# Altium integrated library Linear Technology Comparators.IntLib: 630 symbols (part 5 of 24)
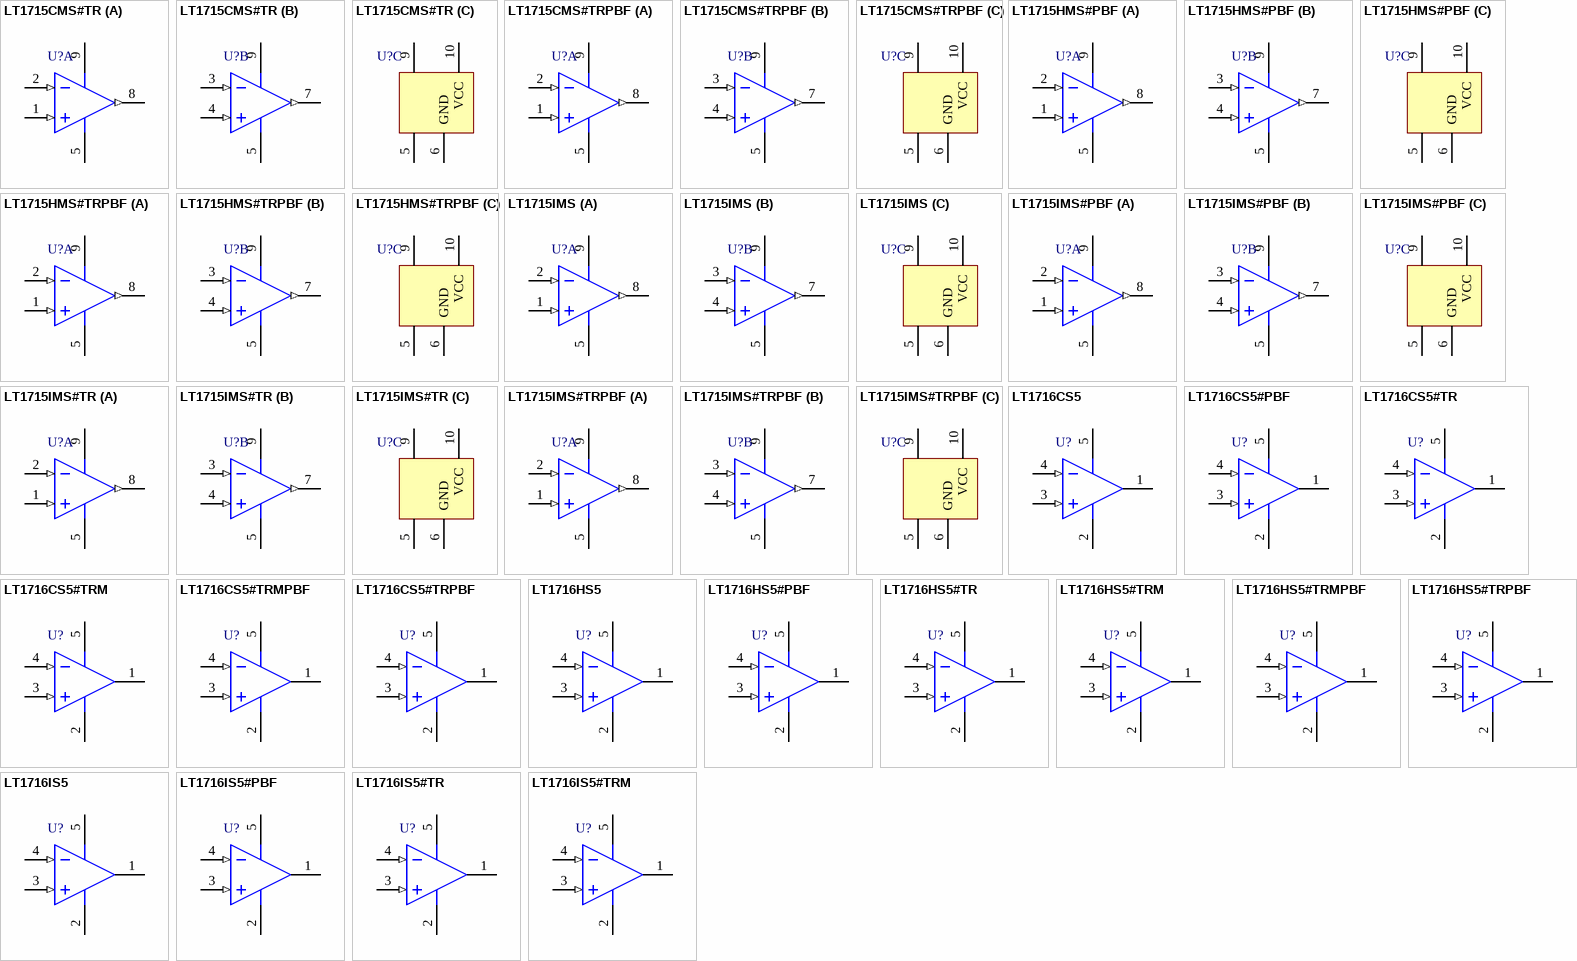
[diagram p28: symbols LT1715CMS#TR to LT1716IS5#TRM]

## LT1715IMS#TRPBF
designator U?
4 ns, 150 MHz Comparator with Independent Input / Output Supplies, 2 Channels, 2.7 to 12 V, -40 to +85 degC, 10-pin MSOP (MS10), Tape and Reel; Generic Part Number: LT1715; Manufacturer: Linear Technology; PartNumber: LT1715IMS#TRPBF; Channels (#): 2; Prop Delay (us): 0.004; Supply Current (uA) Typical: 7500; Vos (mV) Guaranteed: 2.5; Vos (mV) Typical: 0.4; Vs Max (V): 12; Vs Min (V): 2.7; DatasheetVersion: Rev A; PackageReference: MS10; PackageDescription: 10-Pin MSOP, Body 3 x 3 mm, Pitch 0.5 mm; Supplier 1: Digi-Key; Supplier Part Number 1: LT1715IMS#TRPBF-ND; Supplier 2: Newark; Supplier Part Number 2: 57M5789; Features: Comparator, Separate In/Out Power Supply; RoHS: Y; Supply Voltage Range: 2.7 to 12 V; Mounting Technology: Surface Mount; ComponentLink1Description: Manufacturer URL; ComponentLink1URL: http://www.linear.com/; ComponentLink2Description: Datasheet; ComponentLink2URL: http://cds.linear.com/docs/en/datasheet/1715fa.pdf; ComponentLink3Description: Package Specification; ComponentLink3URL: http://cds.linear.com/docs/en/packaging/MSOP_10_05-08-1661.pdf
footprint LT-MS10_N (SOP, 10-Leads, Body 3x3mm, Pitch 0.5mm, IPC Medium Density)
footprint LT-MS10_L (SOP, 10-Leads, Body 3x3mm, Pitch 0.5mm, IPC High Density)
footprint LT-MS10_M (SOP, 10-Leads, Body 3x3mm, Pitch 0.5mm, IPC Low Density)
pins on every part: 5 VEE (power) "Negative Supply Voltage for Input Stage and Substrate.", 9 +VS (power) "Positive Supply Voltage for Output Stage."
part A pins: 1 +IN A (in) "Noninverting Input of Comparator A.", 2 -IN A (in) "Inverting Input of Comparator A.", 8 OUT A (out) "Output of Comparator A."
part B pins: 3 -IN B (in) "Inverting Input of Comparator B.", 4 +IN B (in) "Noninverting Input of Comparator B.", 7 OUT B (out) "Output of Comparator B."
part C pins: 6 GND (power) "Ground for Output Stage.", 10 VCC (power) "Positive Supply Voltage for Input Stage."

## LT1716CS5
designator U?
44 V, Over-the-Top, Micropower, Precision Rail-to-Rail Comparator, 1 Channel, 2.7 to 44 V, 0 to +70 degC, 5-pin Plastic TSOT-23 (S5); Generic Part Number: LT1716; Manufacturer: Linear Technology; PartNumber: LT1716CS5; Channels (#): 1; Prop Delay (us): 3; Supply Current (uA) Typical: 50; Vos (mV) Guaranteed: 1.6; Vos (mV) Typical: 0.3; Vs Max (V): 44; Vs Min (V): 2.7; DatasheetVersion: Rev A; PackageReference: S5; PackageDescription: 5-Pin Plastic TSOT-23, Body 2.9 x 1.63 mm, Pitch 0.95 mm; Features: Comparator, Over-the-Top Inputs, Rail-to-Rail Out; RoHS: N; Supply Voltage Range: 2.7 to 44 V; Mounting Technology: Surface Mount; Code_JEDEC: MO-193; ComponentLink1Description: Manufacturer URL; ComponentLink1URL: http://www.linear.com/; ComponentLink2Description: Datasheet; ComponentLink2URL: http://cds.linear.com/docs/en/datasheet/1716fa.pdf; ComponentLink3Description: Package Specification; ComponentLink3URL: http://cds.linear.com/docs/en/packaging/SOT_5_05-08-1635.pdf
footprint LT-S5_N (SOT-23, 5-Leads, Body 2.9x1.63mm, Pitch 0.95mm, IPC Medium Density)
footprint LT-S5_L (SOT-23, 5-Leads, Body 2.9x1.63mm, Pitch 0.95mm, IPC High Density)
footprint LT-S5_M (SOT-23, 5-Leads, Body 2.9x1.63mm, Pitch 0.95mm, IPC Low Density)
pins: 1 OUT (oc), 2 V- (power), 3 +IN (in), 4 -IN (in), 5 V+ (power)

## LT1716CS5#PBF
designator U?
44 V, Over-the-Top, Micropower, Precision Rail-to-Rail Comparator, 1 Channel, 2.7 to 44 V, 0 to +70 degC, 5-pin Plastic TSOT-23 (S5); Generic Part Number: LT1716; Manufacturer: Linear Technology; PartNumber: LT1716CS5#PBF; Channels (#): 1; Prop Delay (us): 3; Supply Current (uA) Typical: 50; Vos (mV) Guaranteed: 1.6; Vos (mV) Typical: 0.3; Vs Max (V): 44; Vs Min (V): 2.7; DatasheetVersion: Rev A; PackageReference: S5; PackageDescription: 5-Pin Plastic TSOT-23, Body 2.9 x 1.63 mm, Pitch 0.95 mm; Supplier 1: Farnell; Supplier Part Number 1: 1417738; Supplier 2: Farnell; Supplier Part Number 2: 1417738RL; Supplier 3: Newark; Supplier Part Number 3: 78T3704; Features: Comparator, Over-the-Top Inputs, Rail-to-Rail Out; RoHS: Y; Supply Voltage Range: 2.7 to 44 V; Mounting Technology: Surface Mount; Code_JEDEC: MO-193; ComponentLink1Description: Manufacturer URL; ComponentLink1URL: http://www.linear.com/; ComponentLink2Description: Datasheet; ComponentLink2URL: http://cds.linear.com/docs/en/datasheet/1716fa.pdf; ComponentLink3Description: Package Specification; ComponentLink3URL: http://cds.linear.com/docs/en/packaging/SOT_5_05-08-1635.pdf
footprint LT-S5_N (SOT-23, 5-Leads, Body 2.9x1.63mm, Pitch 0.95mm, IPC Medium Density)
footprint LT-S5_L (SOT-23, 5-Leads, Body 2.9x1.63mm, Pitch 0.95mm, IPC High Density)
footprint LT-S5_M (SOT-23, 5-Leads, Body 2.9x1.63mm, Pitch 0.95mm, IPC Low Density)
pins: 1 OUT (oc), 2 V- (power), 3 +IN (in), 4 -IN (in), 5 V+ (power)

## LT1716CS5#TR
designator U?
44 V, Over-the-Top, Micropower, Precision Rail-to-Rail Comparator, 1 Channel, 2.7 to 44 V, 0 to +70 degC, 5-pin Plastic TSOT-23 (S5), Tape and Reel; Generic Part Number: LT1716; Manufacturer: Linear Technology; PartNumber: LT1716CS5#TR; Channels (#): 1; Prop Delay (us): 3; Supply Current (uA) Typical: 50; Vos (mV) Guaranteed: 1.6; Vos (mV) Typical: 0.3; Vs Max (V): 44; Vs Min (V): 2.7; DatasheetVersion: Rev A; PackageReference: S5; PackageDescription: 5-Pin Plastic TSOT-23, Body 2.9 x 1.63 mm, Pitch 0.95 mm; Supplier 1: Digi-Key; Supplier Part Number 1: LT1716CS5#TR-ND; Supplier 2: Newark; Supplier Part Number 2: 57M5790; Features: Comparator, Over-the-Top Inputs, Rail-to-Rail Out; RoHS: N; Supply Voltage Range: 2.7 to 44 V; Mounting Technology: Surface Mount; Code_JEDEC: MO-193; ComponentLink1Description: Manufacturer URL; ComponentLink1URL: http://www.linear.com/; ComponentLink2Description: Datasheet; ComponentLink2URL: http://cds.linear.com/docs/en/datasheet/1716fa.pdf; ComponentLink3Description: Package Specification; ComponentLink3URL: http://cds.linear.com/docs/en/packaging/SOT_5_05-08-1635.pdf
footprint LT-S5_N (SOT-23, 5-Leads, Body 2.9x1.63mm, Pitch 0.95mm, IPC Medium Density)
footprint LT-S5_L (SOT-23, 5-Leads, Body 2.9x1.63mm, Pitch 0.95mm, IPC High Density)
footprint LT-S5_M (SOT-23, 5-Leads, Body 2.9x1.63mm, Pitch 0.95mm, IPC Low Density)
pins: 1 OUT (oc), 2 V- (power), 3 +IN (in), 4 -IN (in), 5 V+ (power)

## LT1716CS5#TRM
designator U?
44 V, Over-the-Top, Micropower, Precision Rail-to-Rail Comparator, 1 Channel, 2.7 to 44 V, 0 to +70 degC, 5-pin Plastic TSOT-23 (S5), Mini Tape and Reel; Generic Part Number: LT1716; Manufacturer: Linear Technology; PartNumber: LT1716CS5#TRM; Channels (#): 1; Prop Delay (us): 3; Supply Current (uA) Typical: 50; Vos (mV) Guaranteed: 1.6; Vos (mV) Typical: 0.3; Vs Max (V): 44; Vs Min (V): 2.7; DatasheetVersion: Rev A; PackageReference: S5; PackageDescription: 5-Pin Plastic TSOT-23, Body 2.9 x 1.63 mm, Pitch 0.95 mm; Supplier 1: Digi-Key; Supplier Part Number 1: LT1716CS5#TRMTR-ND; Supplier 2: Digi-Key; Supplier Part Number 2: LT1716CS5#TRMCT-ND; Supplier 3: Digi-Key; Supplier Part Number 3: LT1716CS5#TRMDKR-ND; Features: Comparator, Over-the-Top Inputs, Rail-to-Rail Out; RoHS: N; Supply Voltage Range: 2.7 to 44 V; Mounting Technology: Surface Mount; Code_JEDEC: MO-193; ComponentLink1Description: Manufacturer URL; ComponentLink1URL: http://www.linear.com/; ComponentLink2Description: Datasheet; ComponentLink2URL: http://cds.linear.com/docs/en/datasheet/1716fa.pdf; ComponentLink3Description: Package Specification; ComponentLink3URL: http://cds.linear.com/docs/en/packaging/SOT_5_05-08-1635.pdf
footprint LT-S5_N (SOT-23, 5-Leads, Body 2.9x1.63mm, Pitch 0.95mm, IPC Medium Density)
footprint LT-S5_L (SOT-23, 5-Leads, Body 2.9x1.63mm, Pitch 0.95mm, IPC High Density)
footprint LT-S5_M (SOT-23, 5-Leads, Body 2.9x1.63mm, Pitch 0.95mm, IPC Low Density)
pins: 1 OUT (oc), 2 V- (power), 3 +IN (in), 4 -IN (in), 5 V+ (power)

## LT1716CS5#TRMPBF
designator U?
SOT-23, 44 V, Over-the-Top, Micropower, Precision Rail-to-Rail Comparator, 1 Channel, 2.7 to 44 V, 0 to +70 degC, 5-pin Plastic TSOT-23 (S5), Mini Tape and Reel; Generic Part Number: LT1716; Manufacturer: Linear Technology; PartNumber: LT1716CS5#TRMPBF; Channels (#): 1; Prop Delay (us): 3; Supply Current (uA) Typical: 50; Vos (mV) Guaranteed: 1.6; Vos (mV) Typical: 0.3; Vs Max (V): 44; Vs Min (V): 2.7; DatasheetVersion: Rev A; PackageReference: S5; PackageDescription: 5-Pin Plastic TSOT-23, Body 2.9 x 1.63 mm, Pitch 0.95 mm; Supplier 1: Digi-Key; Supplier Part Number 1: LT1716CS5#TRMPBFTR-ND; Supplier 2: Digi-Key; Supplier Part Number 2: LT1716CS5#TRMPBFCT-ND; Supplier 3: Digi-Key; Supplier Part Number 3: LT1716CS5#TRMPBFDKR-ND; Supplier 4: Farnell; Supplier Part Number 4: 1663767; Supplier 5: Newark; Supplier Part Number 5: 57M5792; Features: Comparator, Over-the-Top Inputs, Rail-to-Rail Out; RoHS: Y; Supply Voltage Range: 2.7 to 44 V; Mounting Technology: Surface Mount; Code_JEDEC: MO-193; ComponentLink1Description: Manufacturer URL; ComponentLink1URL: http://www.linear.com/; ComponentLink2Description: Datasheet; ComponentLink2URL: http://cds.linear.com/docs/en/datasheet/1716fa.pdf; ComponentLink3Description: Package Specification; ComponentLink3URL: http://cds.linear.com/docs/en/packaging/SOT_5_05-08-1635.pdf
footprint LT-S5_N (SOT-23, 5-Leads, Body 2.9x1.63mm, Pitch 0.95mm, IPC Medium Density)
footprint LT-S5_L (SOT-23, 5-Leads, Body 2.9x1.63mm, Pitch 0.95mm, IPC High Density)
footprint LT-S5_M (SOT-23, 5-Leads, Body 2.9x1.63mm, Pitch 0.95mm, IPC Low Density)
pins: 1 OUT (oc), 2 V- (power), 3 +IN (in), 4 -IN (in), 5 V+ (power)

## LT1716CS5#TRPBF
designator U?
SOT-23, 44 V, Over-the-Top, Micropower, Precision Rail-to-Rail Comparator, 1 Channel, 2.7 to 44 V, 0 to +70 degC, 5-pin Plastic TSOT-23 (S5), Tape and Reel; Generic Part Number: LT1716; Manufacturer: Linear Technology; PartNumber: LT1716CS5#TRPBF; Channels (#): 1; Prop Delay (us): 3; Supply Current (uA) Typical: 50; Vos (mV) Guaranteed: 1.6; Vos (mV) Typical: 0.3; Vs Max (V): 44; Vs Min (V): 2.7; DatasheetVersion: Rev A; PackageReference: S5; PackageDescription: 5-Pin Plastic TSOT-23, Body 2.9 x 1.63 mm, Pitch 0.95 mm; Supplier 1: Digi-Key; Supplier Part Number 1: LT1716CS5#TRPBF-ND; Supplier 2: Newark; Supplier Part Number 2: 57M5793; Features: Comparator, Over-the-Top Inputs, Rail-to-Rail Out; RoHS: Y; Supply Voltage Range: 2.7 to 44 V; Mounting Technology: Surface Mount; Code_JEDEC: MO-193; ComponentLink1Description: Manufacturer URL; ComponentLink1URL: http://www.linear.com/; ComponentLink2Description: Datasheet; ComponentLink2URL: http://cds.linear.com/docs/en/datasheet/1716fa.pdf; ComponentLink3Description: Package Specification; ComponentLink3URL: http://cds.linear.com/docs/en/packaging/SOT_5_05-08-1635.pdf
footprint LT-S5_N (SOT-23, 5-Leads, Body 2.9x1.63mm, Pitch 0.95mm, IPC Medium Density)
footprint LT-S5_L (SOT-23, 5-Leads, Body 2.9x1.63mm, Pitch 0.95mm, IPC High Density)
footprint LT-S5_M (SOT-23, 5-Leads, Body 2.9x1.63mm, Pitch 0.95mm, IPC Low Density)
pins: 1 OUT (oc), 2 V- (power), 3 +IN (in), 4 -IN (in), 5 V+ (power)

## LT1716HS5
designator U?
44 V, Over-the-Top, Micropower, Precision Rail-to-Rail Comparator, 1 Channel, 2.7 to 44 V, -40 to +125 degC, 5-pin Plastic TSOT-23 (S5); Generic Part Number: LT1716; Manufacturer: Linear Technology; PartNumber: LT1716HS5; Channels (#): 1; Prop Delay (us): 3; Supply Current (uA) Typical: 50; Vos (mV) Guaranteed: 1.6; Vos (mV) Typical: 0.3; Vs Max (V): 44; Vs Min (V): 2.7; DatasheetVersion: Rev A; PackageReference: S5; PackageDescription: 5-Pin Plastic TSOT-23, Body 2.9 x 1.63 mm, Pitch 0.95 mm; Features: Comparator, Over-the-Top Inputs, Rail-to-Rail Out; RoHS: N; Supply Voltage Range: 2.7 to 44 V; Mounting Technology: Surface Mount; Code_JEDEC: MO-193; ComponentLink1Description: Manufacturer URL; ComponentLink1URL: http://www.linear.com/; ComponentLink2Description: Datasheet; ComponentLink2URL: http://cds.linear.com/docs/en/datasheet/1716fa.pdf; ComponentLink3Description: Package Specification; ComponentLink3URL: http://cds.linear.com/docs/en/packaging/SOT_5_05-08-1635.pdf
footprint LT-S5_N (SOT-23, 5-Leads, Body 2.9x1.63mm, Pitch 0.95mm, IPC Medium Density)
footprint LT-S5_L (SOT-23, 5-Leads, Body 2.9x1.63mm, Pitch 0.95mm, IPC High Density)
footprint LT-S5_M (SOT-23, 5-Leads, Body 2.9x1.63mm, Pitch 0.95mm, IPC Low Density)
pins: 1 OUT (oc), 2 V- (power), 3 +IN (in), 4 -IN (in), 5 V+ (power)

## LT1716HS5#PBF
designator U?
44 V, Over-the-Top, Micropower, Precision Rail-to-Rail Comparator, 1 Channel, 2.7 to 44 V, -40 to +125 degC, 5-pin Plastic TSOT-23 (S5); Generic Part Number: LT1716; Manufacturer: Linear Technology; PartNumber: LT1716HS5#PBF; Channels (#): 1; Prop Delay (us): 3; Supply Current (uA) Typical: 50; Vos (mV) Guaranteed: 1.6; Vos (mV) Typical: 0.3; Vs Max (V): 44; Vs Min (V): 2.7; DatasheetVersion: Rev A; PackageReference: S5; PackageDescription: 5-Pin Plastic TSOT-23, Body 2.9 x 1.63 mm, Pitch 0.95 mm; Supplier 1: Newark; Supplier Part Number 1: 65T5908; Features: Comparator, Over-the-Top Inputs, Rail-to-Rail Out; RoHS: Y; Supply Voltage Range: 2.7 to 44 V; Mounting Technology: Surface Mount; Code_JEDEC: MO-193; ComponentLink1Description: Manufacturer URL; ComponentLink1URL: http://www.linear.com/; ComponentLink2Description: Datasheet; ComponentLink2URL: http://cds.linear.com/docs/en/datasheet/1716fa.pdf; ComponentLink3Description: Package Specification; ComponentLink3URL: http://cds.linear.com/docs/en/packaging/SOT_5_05-08-1635.pdf
footprint LT-S5_N (SOT-23, 5-Leads, Body 2.9x1.63mm, Pitch 0.95mm, IPC Medium Density)
footprint LT-S5_L (SOT-23, 5-Leads, Body 2.9x1.63mm, Pitch 0.95mm, IPC High Density)
footprint LT-S5_M (SOT-23, 5-Leads, Body 2.9x1.63mm, Pitch 0.95mm, IPC Low Density)
pins: 1 OUT (oc), 2 V- (power), 3 +IN (in), 4 -IN (in), 5 V+ (power)

## LT1716HS5#TR
designator U?
44 V, Over-the-Top, Micropower, Precision Rail-to-Rail Comparator, 1 Channel, 2.7 to 44 V, -40 to +125 degC, 5-pin Plastic TSOT-23 (S5), Tape and Reel; Generic Part Number: LT1716; Manufacturer: Linear Technology; PartNumber: LT1716HS5#TR; Channels (#): 1; Prop Delay (us): 3; Supply Current (uA) Typical: 50; Vos (mV) Guaranteed: 1.6; Vos (mV) Typical: 0.3; Vs Max (V): 44; Vs Min (V): 2.7; DatasheetVersion: Rev A; PackageReference: S5; PackageDescription: 5-Pin Plastic TSOT-23, Body 2.9 x 1.63 mm, Pitch 0.95 mm; Supplier 1: Digi-Key; Supplier Part Number 1: LT1716HS5#TR-ND; Supplier 2: Newark; Supplier Part Number 2: 57M5794; Features: Comparator, Over-the-Top Inputs, Rail-to-Rail Out; RoHS: N; Supply Voltage Range: 2.7 to 44 V; Mounting Technology: Surface Mount; Code_JEDEC: MO-193; ComponentLink1Description: Manufacturer URL; ComponentLink1URL: http://www.linear.com/; ComponentLink2Description: Datasheet; ComponentLink2URL: http://cds.linear.com/docs/en/datasheet/1716fa.pdf; ComponentLink3Description: Package Specification; ComponentLink3URL: http://cds.linear.com/docs/en/packaging/SOT_5_05-08-1635.pdf
footprint LT-S5_N (SOT-23, 5-Leads, Body 2.9x1.63mm, Pitch 0.95mm, IPC Medium Density)
footprint LT-S5_L (SOT-23, 5-Leads, Body 2.9x1.63mm, Pitch 0.95mm, IPC High Density)
footprint LT-S5_M (SOT-23, 5-Leads, Body 2.9x1.63mm, Pitch 0.95mm, IPC Low Density)
pins: 1 OUT (oc), 2 V- (power), 3 +IN (in), 4 -IN (in), 5 V+ (power)

## LT1716HS5#TRM
designator U?
44 V, Over-the-Top, Micropower, Precision Rail-to-Rail Comparator, 1 Channel, 2.7 to 44 V, -40 to +125 degC, 5-pin Plastic TSOT-23 (S5), Mini Tape and Reel; Generic Part Number: LT1716; Manufacturer: Linear Technology; PartNumber: LT1716HS5#TRM; Channels (#): 1; Prop Delay (us): 3; Supply Current (uA) Typical: 50; Vos (mV) Guaranteed: 1.6; Vos (mV) Typical: 0.3; Vs Max (V): 44; Vs Min (V): 2.7; DatasheetVersion: Rev A; PackageReference: S5; PackageDescription: 5-Pin Plastic TSOT-23, Body 2.9 x 1.63 mm, Pitch 0.95 mm; Supplier 1: Digi-Key; Supplier Part Number 1: LT1716HS5#TRMTR-ND; Supplier 2: Digi-Key; Supplier Part Number 2: LT1716HS5#TRMCT-ND; Supplier 3: Digi-Key; Supplier Part Number 3: LT1716HS5#TRMDKR-ND; Supplier 4: Newark; Supplier Part Number 4: 57M5795; Features: Comparator, Over-the-Top Inputs, Rail-to-Rail Out; RoHS: N; Supply Voltage Range: 2.7 to 44 V; Mounting Technology: Surface Mount; Code_JEDEC: MO-193; ComponentLink1Description: Manufacturer URL; ComponentLink1URL: http://www.linear.com/; ComponentLink2Description: Datasheet; ComponentLink2URL: http://cds.linear.com/docs/en/datasheet/1716fa.pdf; ComponentLink3Description: Package Specification; ComponentLink3URL: http://cds.linear.com/docs/en/packaging/SOT_5_05-08-1635.pdf
footprint LT-S5_N (SOT-23, 5-Leads, Body 2.9x1.63mm, Pitch 0.95mm, IPC Medium Density)
footprint LT-S5_L (SOT-23, 5-Leads, Body 2.9x1.63mm, Pitch 0.95mm, IPC High Density)
footprint LT-S5_M (SOT-23, 5-Leads, Body 2.9x1.63mm, Pitch 0.95mm, IPC Low Density)
pins: 1 OUT (oc), 2 V- (power), 3 +IN (in), 4 -IN (in), 5 V+ (power)

## LT1716HS5#TRMPBF
designator U?
44 V, Over-the-Top, Micropower, Precision Rail-to-Rail Comparator, 1 Channel, 2.7 to 44 V, -40 to +125 degC, 5-pin Plastic TSOT-23 (S5), Mini Tape and Reel; Generic Part Number: LT1716; Manufacturer: Linear Technology; PartNumber: LT1716HS5#TRMPBF; Channels (#): 1; Prop Delay (us): 3; Supply Current (uA) Typical: 50; Vos (mV) Guaranteed: 1.6; Vos (mV) Typical: 0.3; Vs Max (V): 44; Vs Min (V): 2.7; DatasheetVersion: Rev A; PackageReference: S5; PackageDescription: 5-Pin Plastic TSOT-23, Body 2.9 x 1.63 mm, Pitch 0.95 mm; Supplier 1: Digi-Key; Supplier Part Number 1: LT1716HS5#TRMPBFTR-ND; Supplier 2: Digi-Key; Supplier Part Number 2: LT1716HS5#TRMPBFCT-ND; Supplier 3: Digi-Key; Supplier Part Number 3: LT1716HS5#TRMPBFDKR-ND; Supplier 4: Farnell; Supplier Part Number 4: 1663769RL; Supplier 5: Farnell; Supplier Part Number 5: 1663769; Supplier 6: Newark; Supplier Part Number 6: 57M5796; Features: Comparator, Over-the-Top Inputs, Rail-to-Rail Out; RoHS: Y; Supply Voltage Range: 2.7 to 44 V; Mounting Technology: Surface Mount; Code_JEDEC: MO-193; ComponentLink1Description: Manufacturer URL; ComponentLink1URL: http://www.linear.com/; ComponentLink2Description: Datasheet; ComponentLink2URL: http://cds.linear.com/docs/en/datasheet/1716fa.pdf; ComponentLink3Description: Package Specification; ComponentLink3URL: http://cds.linear.com/docs/en/packaging/SOT_5_05-08-1635.pdf
footprint LT-S5_N (SOT-23, 5-Leads, Body 2.9x1.63mm, Pitch 0.95mm, IPC Medium Density)
footprint LT-S5_L (SOT-23, 5-Leads, Body 2.9x1.63mm, Pitch 0.95mm, IPC High Density)
footprint LT-S5_M (SOT-23, 5-Leads, Body 2.9x1.63mm, Pitch 0.95mm, IPC Low Density)
pins: 1 OUT (oc), 2 V- (power), 3 +IN (in), 4 -IN (in), 5 V+ (power)

## LT1716HS5#TRPBF
designator U?
44 V, Over-the-Top, Micropower, Precision Rail-to-Rail Comparator, 1 Channel, 2.7 to 44 V, -40 to +125 degC, 5-pin Plastic TSOT-23 (S5), Tape and Reel; Generic Part Number: LT1716; Manufacturer: Linear Technology; PartNumber: LT1716HS5#TRPBF; Channels (#): 1; Prop Delay (us): 3; Supply Current (uA) Typical: 50; Vos (mV) Guaranteed: 1.6; Vos (mV) Typical: 0.3; Vs Max (V): 44; Vs Min (V): 2.7; DatasheetVersion: Rev A; PackageReference: S5; PackageDescription: 5-Pin Plastic TSOT-23, Body 2.9 x 1.63 mm, Pitch 0.95 mm; Supplier 1: Digi-Key; Supplier Part Number 1: LT1716HS5#TRPBF-ND; Supplier 2: Newark; Supplier Part Number 2: 57M5797; Features: Comparator, Over-the-Top Inputs, Rail-to-Rail Out; RoHS: Y; Supply Voltage Range: 2.7 to 44 V; Mounting Technology: Surface Mount; Code_JEDEC: MO-193; ComponentLink1Description: Manufacturer URL; ComponentLink1URL: http://www.linear.com/; ComponentLink2Description: Datasheet; ComponentLink2URL: http://cds.linear.com/docs/en/datasheet/1716fa.pdf; ComponentLink3Description: Package Specification; ComponentLink3URL: http://cds.linear.com/docs/en/packaging/SOT_5_05-08-1635.pdf
footprint LT-S5_N (SOT-23, 5-Leads, Body 2.9x1.63mm, Pitch 0.95mm, IPC Medium Density)
footprint LT-S5_L (SOT-23, 5-Leads, Body 2.9x1.63mm, Pitch 0.95mm, IPC High Density)
footprint LT-S5_M (SOT-23, 5-Leads, Body 2.9x1.63mm, Pitch 0.95mm, IPC Low Density)
pins: 1 OUT (oc), 2 V- (power), 3 +IN (in), 4 -IN (in), 5 V+ (power)

## LT1716IS5
designator U?
44 V, Over-the-Top, Micropower, Precision Rail-to-Rail Comparator, 1 Channel, 2.7 to 44 V, -40 to +85 degC, 5-pin Plastic TSOT-23 (S5); Generic Part Number: LT1716; Manufacturer: Linear Technology; PartNumber: LT1716IS5; Channels (#): 1; Prop Delay (us): 3; Supply Current (uA) Typical: 50; Vos (mV) Guaranteed: 1.6; Vos (mV) Typical: 0.3; Vs Max (V): 44; Vs Min (V): 2.7; DatasheetVersion: Rev A; PackageReference: S5; PackageDescription: 5-Pin Plastic TSOT-23, Body 2.9 x 1.63 mm, Pitch 0.95 mm; Features: Comparator, Over-the-Top Inputs, Rail-to-Rail Out; RoHS: N; Supply Voltage Range: 2.7 to 44 V; Mounting Technology: Surface Mount; Code_JEDEC: MO-193; ComponentLink1Description: Manufacturer URL; ComponentLink1URL: http://www.linear.com/; ComponentLink2Description: Datasheet; ComponentLink2URL: http://cds.linear.com/docs/en/datasheet/1716fa.pdf; ComponentLink3Description: Package Specification; ComponentLink3URL: http://cds.linear.com/docs/en/packaging/SOT_5_05-08-1635.pdf
footprint LT-S5_N (SOT-23, 5-Leads, Body 2.9x1.63mm, Pitch 0.95mm, IPC Medium Density)
footprint LT-S5_L (SOT-23, 5-Leads, Body 2.9x1.63mm, Pitch 0.95mm, IPC High Density)
footprint LT-S5_M (SOT-23, 5-Leads, Body 2.9x1.63mm, Pitch 0.95mm, IPC Low Density)
pins: 1 OUT (oc), 2 V- (power), 3 +IN (in), 4 -IN (in), 5 V+ (power)

## LT1716IS5#PBF
designator U?
44 V, Over-the-Top, Micropower, Precision Rail-to-Rail Comparator, 1 Channel, 2.7 to 44 V, -40 to +85 degC, 5-pin Plastic TSOT-23 (S5); Generic Part Number: LT1716; Manufacturer: Linear Technology; PartNumber: LT1716IS5#PBF; Channels (#): 1; Prop Delay (us): 3; Supply Current (uA) Typical: 50; Vos (mV) Guaranteed: 1.6; Vos (mV) Typical: 0.3; Vs Max (V): 44; Vs Min (V): 2.7; DatasheetVersion: Rev A; PackageReference: S5; PackageDescription: 5-Pin Plastic TSOT-23, Body 2.9 x 1.63 mm, Pitch 0.95 mm; Supplier 1: Farnell; Supplier Part Number 1: 2115817; Supplier 2: Newark; Supplier Part Number 2: 61M3351; Features: Comparator, Over-the-Top Inputs, Rail-to-Rail Out; RoHS: Y; Supply Voltage Range: 2.7 to 44 V; Mounting Technology: Surface Mount; Code_JEDEC: MO-193; ComponentLink1Description: Manufacturer URL; ComponentLink1URL: http://www.linear.com/; ComponentLink2Description: Datasheet; ComponentLink2URL: http://cds.linear.com/docs/en/datasheet/1716fa.pdf; ComponentLink3Description: Package Specification; ComponentLink3URL: http://cds.linear.com/docs/en/packaging/SOT_5_05-08-1635.pdf
footprint LT-S5_N (SOT-23, 5-Leads, Body 2.9x1.63mm, Pitch 0.95mm, IPC Medium Density)
footprint LT-S5_L (SOT-23, 5-Leads, Body 2.9x1.63mm, Pitch 0.95mm, IPC High Density)
footprint LT-S5_M (SOT-23, 5-Leads, Body 2.9x1.63mm, Pitch 0.95mm, IPC Low Density)
pins: 1 OUT (oc), 2 V- (power), 3 +IN (in), 4 -IN (in), 5 V+ (power)

## LT1716IS5#TR
designator U?
44 V, Over-the-Top, Micropower, Precision Rail-to-Rail Comparator, 1 Channel, 2.7 to 44 V, -40 to +85 degC, 5-pin Plastic TSOT-23 (S5), Tape and Reel; Generic Part Number: LT1716; Manufacturer: Linear Technology; PartNumber: LT1716IS5#TR; Channels (#): 1; Prop Delay (us): 3; Supply Current (uA) Typical: 50; Vos (mV) Guaranteed: 1.6; Vos (mV) Typical: 0.3; Vs Max (V): 44; Vs Min (V): 2.7; DatasheetVersion: Rev A; PackageReference: S5; PackageDescription: 5-Pin Plastic TSOT-23, Body 2.9 x 1.63 mm, Pitch 0.95 mm; Supplier 1: Digi-Key; Supplier Part Number 1: LT1716IS5#TR-ND; Supplier 2: Newark; Supplier Part Number 2: 57M5798; Features: Comparator, Over-the-Top Inputs, Rail-to-Rail Out; RoHS: N; Supply Voltage Range: 2.7 to 44 V; Mounting Technology: Surface Mount; Code_JEDEC: MO-193; ComponentLink1Description: Manufacturer URL; ComponentLink1URL: http://www.linear.com/; ComponentLink2Description: Datasheet; ComponentLink2URL: http://cds.linear.com/docs/en/datasheet/1716fa.pdf; ComponentLink3Description: Package Specification; ComponentLink3URL: http://cds.linear.com/docs/en/packaging/SOT_5_05-08-1635.pdf
footprint LT-S5_N (SOT-23, 5-Leads, Body 2.9x1.63mm, Pitch 0.95mm, IPC Medium Density)
footprint LT-S5_L (SOT-23, 5-Leads, Body 2.9x1.63mm, Pitch 0.95mm, IPC High Density)
footprint LT-S5_M (SOT-23, 5-Leads, Body 2.9x1.63mm, Pitch 0.95mm, IPC Low Density)
pins: 1 OUT (oc), 2 V- (power), 3 +IN (in), 4 -IN (in), 5 V+ (power)

## LT1716IS5#TRM
designator U?
44 V, Over-the-Top, Micropower, Precision Rail-to-Rail Comparator, 1 Channel, 2.7 to 44 V, -40 to +85 degC, 5-pin Plastic TSOT-23 (S5), Mini Tape and Reel; Generic Part Number: LT1716; Manufacturer: Linear Technology; PartNumber: LT1716IS5#TRM; Channels (#): 1; Prop Delay (us): 3; Supply Current (uA) Typical: 50; Vos (mV) Guaranteed: 1.6; Vos (mV) Typical: 0.3; Vs Max (V): 44; Vs Min (V): 2.7; DatasheetVersion: Rev A; PackageReference: S5; PackageDescription: 5-Pin Plastic TSOT-23, Body 2.9 x 1.63 mm, Pitch 0.95 mm; Supplier 1: Digi-Key; Supplier Part Number 1: LT1716IS5#TRMTR-ND; Supplier 2: Digi-Key; Supplier Part Number 2: LT1716IS5#TRMCT-ND; Supplier 3: Digi-Key; Supplier Part Number 3: LT1716IS5#TRMDKR-ND; Supplier 4: Newark; Supplier Part Number 4: 57M5799; Features: Comparator, Over-the-Top Inputs, Rail-to-Rail Out; RoHS: N; Supply Voltage Range: 2.7 to 44 V; Mounting Technology: Surface Mount; Code_JEDEC: MO-193; ComponentLink1Description: Manufacturer URL; ComponentLink1URL: http://www.linear.com/; ComponentLink2Description: Datasheet; ComponentLink2URL: http://cds.linear.com/docs/en/datasheet/1716fa.pdf; ComponentLink3Description: Package Specification; ComponentLink3URL: http://cds.linear.com/docs/en/packaging/SOT_5_05-08-1635.pdf
footprint LT-S5_N (SOT-23, 5-Leads, Body 2.9x1.63mm, Pitch 0.95mm, IPC Medium Density)
footprint LT-S5_L (SOT-23, 5-Leads, Body 2.9x1.63mm, Pitch 0.95mm, IPC High Density)
footprint LT-S5_M (SOT-23, 5-Leads, Body 2.9x1.63mm, Pitch 0.95mm, IPC Low Density)
pins: 1 OUT (oc), 2 V- (power), 3 +IN (in), 4 -IN (in), 5 V+ (power)

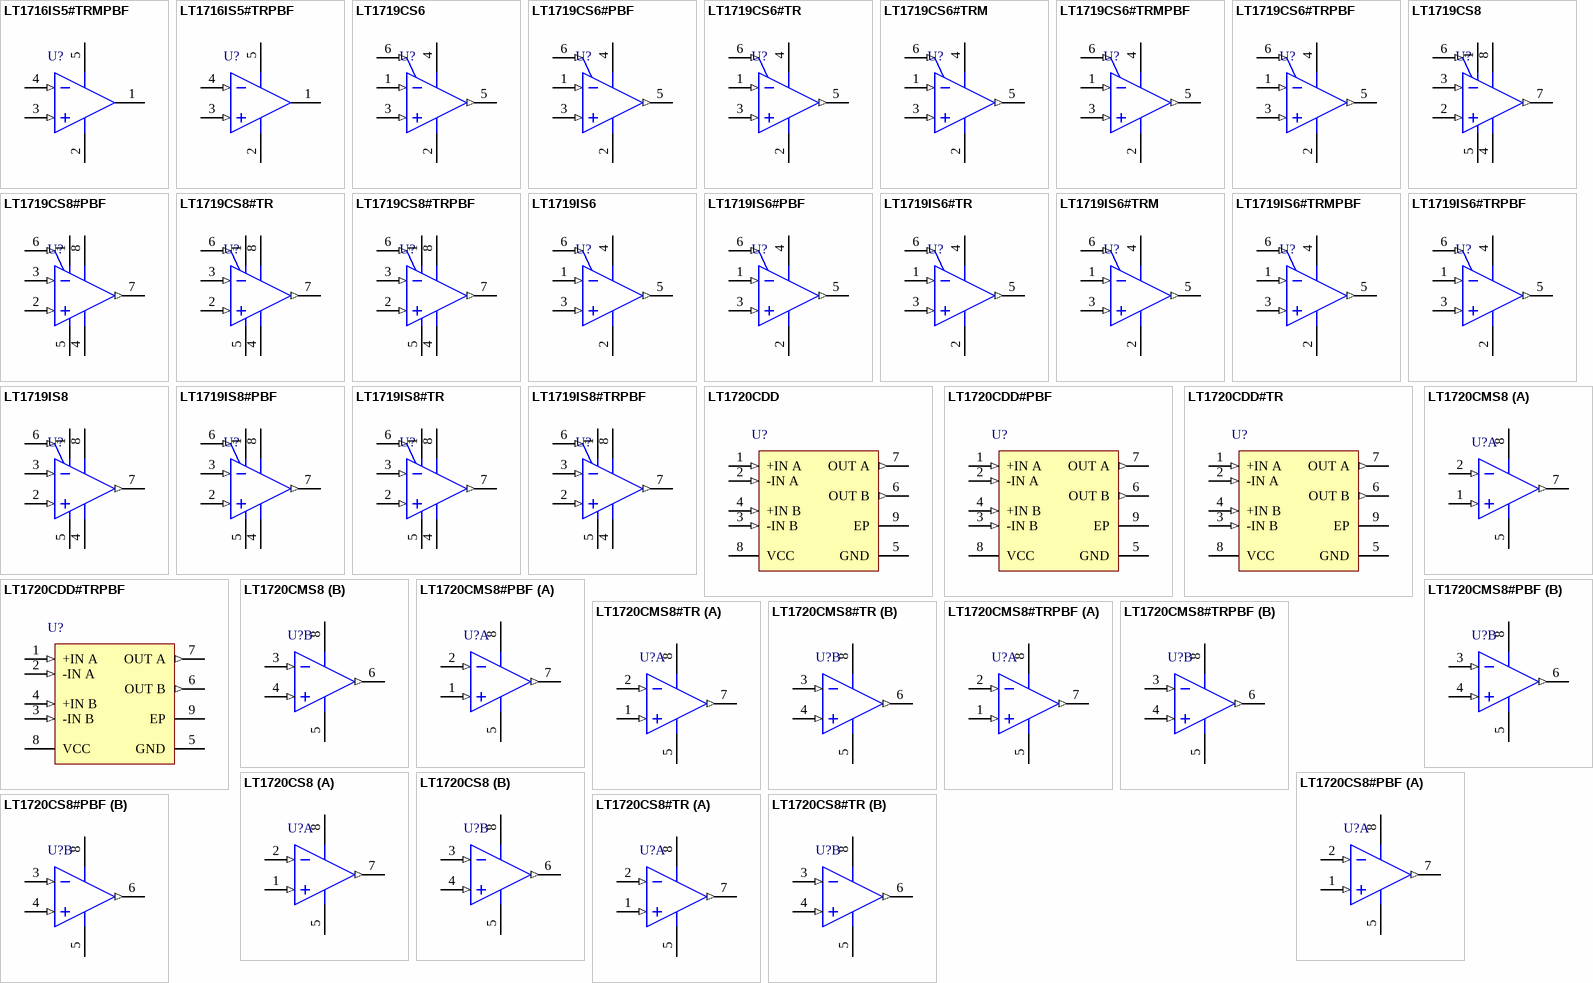
[diagram p6: symbols LT1716IS5#TRMPBF to LT1720CS8#TR]

## LT1716IS5#TRMPBF
designator U?
44 V, Over-the-Top, Micropower, Precision Rail-to-Rail Comparator, 1 Channel, 2.7 to 44 V, -40 to +85 degC, 5-pin Plastic TSOT-23 (S5), Mini Tape and Reel; Generic Part Number: LT1716; Manufacturer: Linear Technology; PartNumber: LT1716IS5#TRMPBF; Channels (#): 1; Prop Delay (us): 3; Supply Current (uA) Typical: 50; Vos (mV) Guaranteed: 1.6; Vos (mV) Typical: 0.3; Vs Max (V): 44; Vs Min (V): 2.7; DatasheetVersion: Rev A; PackageReference: S5; PackageDescription: 5-Pin Plastic TSOT-23, Body 2.9 x 1.63 mm, Pitch 0.95 mm; Supplier 1: Digi-Key; Supplier Part Number 1: LT1716IS5#TRMPBFTR-ND; Supplier 2: Digi-Key; Supplier Part Number 2: LT1716IS5#TRMPBFCT-ND; Supplier 3: Digi-Key; Supplier Part Number 3: LT1716IS5#TRMPBFDKR-ND; Supplier 4: Farnell; Supplier Part Number 4: 1663771; Supplier 5: Farnell; Supplier Part Number 5: 1663771RL; Supplier 6: Newark; Supplier Part Number 6: 57M5800; Features: Comparator, Over-the-Top Inputs, Rail-to-Rail Out; RoHS: Y; Supply Voltage Range: 2.7 to 44 V; Mounting Technology: Surface Mount; Code_JEDEC: MO-193; ComponentLink1Description: Manufacturer URL; ComponentLink1URL: http://www.linear.com/; ComponentLink2Description: Datasheet; ComponentLink2URL: http://cds.linear.com/docs/en/datasheet/1716fa.pdf; ComponentLink3Description: Package Specification; ComponentLink3URL: http://cds.linear.com/docs/en/packaging/SOT_5_05-08-1635.pdf
footprint LT-S5_N (SOT-23, 5-Leads, Body 2.9x1.63mm, Pitch 0.95mm, IPC Medium Density)
footprint LT-S5_L (SOT-23, 5-Leads, Body 2.9x1.63mm, Pitch 0.95mm, IPC High Density)
footprint LT-S5_M (SOT-23, 5-Leads, Body 2.9x1.63mm, Pitch 0.95mm, IPC Low Density)
pins: 1 OUT (oc), 2 V- (power), 3 +IN (in), 4 -IN (in), 5 V+ (power)

## LT1716IS5#TRPBF
designator U?
44 V, Over-the-Top, Micropower, Precision Rail-to-Rail Comparator, 1 Channel, 2.7 to 44 V, -40 to +85 degC, 5-pin Plastic TSOT-23 (S5), Tape and Reel; Generic Part Number: LT1716; Manufacturer: Linear Technology; PartNumber: LT1716IS5#TRPBF; Channels (#): 1; Prop Delay (us): 3; Supply Current (uA) Typical: 50; Vos (mV) Guaranteed: 1.6; Vos (mV) Typical: 0.3; Vs Max (V): 44; Vs Min (V): 2.7; DatasheetVersion: Rev A; PackageReference: S5; PackageDescription: 5-Pin Plastic TSOT-23, Body 2.9 x 1.63 mm, Pitch 0.95 mm; Supplier 1: Digi-Key; Supplier Part Number 1: LT1716IS5#TRPBF-ND; Supplier 2: Newark; Supplier Part Number 2: 57M5801; Features: Comparator, Over-the-Top Inputs, Rail-to-Rail Out; RoHS: Y; Supply Voltage Range: 2.7 to 44 V; Mounting Technology: Surface Mount; Code_JEDEC: MO-193; ComponentLink1Description: Manufacturer URL; ComponentLink1URL: http://www.linear.com/; ComponentLink2Description: Datasheet; ComponentLink2URL: http://cds.linear.com/docs/en/datasheet/1716fa.pdf; ComponentLink3Description: Package Specification; ComponentLink3URL: http://cds.linear.com/docs/en/packaging/SOT_5_05-08-1635.pdf
footprint LT-S5_N (SOT-23, 5-Leads, Body 2.9x1.63mm, Pitch 0.95mm, IPC Medium Density)
footprint LT-S5_L (SOT-23, 5-Leads, Body 2.9x1.63mm, Pitch 0.95mm, IPC High Density)
footprint LT-S5_M (SOT-23, 5-Leads, Body 2.9x1.63mm, Pitch 0.95mm, IPC Low Density)
pins: 1 OUT (oc), 2 V- (power), 3 +IN (in), 4 -IN (in), 5 V+ (power)

## LT1719CS6
designator U?
4.5 ns Single / Dual Supply 3 V / 5 V Comparator with Rail-to-Rail Output, 1 Channel, 2.7 to 10.5 V, 0 to +70 degC, 6-pin Plastic TSOT-23 (S6); Generic Part Number: LT1719; Manufacturer: Linear Technology; PartNumber: LT1719CS6; Channels (#): 1; Prop Delay (us): 0.0042; Supply Current (uA) Typical: 4200; Vos (mV) Guaranteed: 2.5; Vos (mV) Typical: 0.4; Vs Max (V): 10.5; Vs Min (V): 2.7; DatasheetVersion: Rev A; PackageReference: S6; PackageDescription: 6-Pin Plastic TSOT-23, Body 2.9 x 1.63 mm, Pitch 0.95 mm; Features: Comparator, Separate In/Out Power Supply, Rail-to-Rail Out; RoHS: N; Supply Voltage Range: 2.7 to 10.5 V; Mounting Technology: Surface Mount; Code_JEDEC: MO-193; ComponentLink1Description: Manufacturer URL; ComponentLink1URL: http://www.linear.com/; ComponentLink2Description: Datasheet; ComponentLink2URL: http://cds.linear.com/docs/en/datasheet/1719fa.pdf; ComponentLink3Description: Package Specification; ComponentLink3URL: http://cds.linear.com/docs/en/packaging/SOT_6_05-08-1636.pdf
footprint LT-S6_N (SOT23, 6-Leads, Body 2.9x1.63mm, Pitch 0.95mm, IPC Medium Density)
footprint LT-S6_L (SOT23, 6-Leads, Body 2.9x1.63mm, Pitch 0.95mm, IPC High Density)
footprint LT-S6_M (SOT23, 6-Leads, Body 2.9x1.63mm, Pitch 0.95mm, IPC Low Density)
pins: 1 -IN (in) "Inverting Input of Comparator", 2 V- (power) "Negative Supply, Usually Grounded.", 3 +IN (in) "Noninverting Input of Comparator.", 4 V+ (power) "Positive Supply Voltage.", 5 OUT (out) "Output of Comparator.", 6 SHDN (in) "Shutdown. Pull to ground to enable comparator."

## LT1719CS6#PBF
designator U?
4.5 ns Single / Dual Supply 3 V / 5 V Comparator with Rail-to-Rail Output, 1 Channel, 2.7 to 10.5 V, 0 to +70 degC, 6-pin Plastic TSOT-23 (S6); Generic Part Number: LT1719; Manufacturer: Linear Technology; PartNumber: LT1719CS6#PBF; Channels (#): 1; Prop Delay (us): 0.0042; Supply Current (uA) Typical: 4200; Vos (mV) Guaranteed: 2.5; Vos (mV) Typical: 0.4; Vs Max (V): 10.5; Vs Min (V): 2.7; DatasheetVersion: Rev A; PackageReference: S6; PackageDescription: 6-Pin Plastic TSOT-23, Body 2.9 x 1.63 mm, Pitch 0.95 mm; Supplier 1: Newark; Supplier Part Number 1: 78T3705; Features: Comparator, Separate In/Out Power Supply, Rail-to-Rail Out; RoHS: Y; Supply Voltage Range: 2.7 to 10.5 V; Mounting Technology: Surface Mount; Code_JEDEC: MO-193; ComponentLink1Description: Manufacturer URL; ComponentLink1URL: http://www.linear.com/; ComponentLink2Description: Datasheet; ComponentLink2URL: http://cds.linear.com/docs/en/datasheet/1719fa.pdf; ComponentLink3Description: Package Specification; ComponentLink3URL: http://cds.linear.com/docs/en/packaging/SOT_6_05-08-1636.pdf
footprint LT-S6_N (SOT23, 6-Leads, Body 2.9x1.63mm, Pitch 0.95mm, IPC Medium Density)
footprint LT-S6_L (SOT23, 6-Leads, Body 2.9x1.63mm, Pitch 0.95mm, IPC High Density)
footprint LT-S6_M (SOT23, 6-Leads, Body 2.9x1.63mm, Pitch 0.95mm, IPC Low Density)
pins: 1 -IN (in) "Inverting Input of Comparator", 2 V- (power) "Negative Supply, Usually Grounded.", 3 +IN (in) "Noninverting Input of Comparator.", 4 V+ (power) "Positive Supply Voltage.", 5 OUT (out) "Output of Comparator.", 6 SHDN (in) "Shutdown. Pull to ground to enable comparator."

## LT1719CS6#TR
designator U?
4.5 ns Single / Dual Supply 3 V / 5 V Comparator with Rail-to-Rail Output, 1 Channel, 2.7 to 10.5 V, 0 to +70 degC, 6-pin Plastic TSOT-23 (S6), Tape and Reel; Generic Part Number: LT1719; Manufacturer: Linear Technology; PartNumber: LT1719CS6#TR; Channels (#): 1; Prop Delay (us): 0.0042; Supply Current (uA) Typical: 4200; Vos (mV) Guaranteed: 2.5; Vos (mV) Typical: 0.4; Vs Max (V): 10.5; Vs Min (V): 2.7; DatasheetVersion: Rev A; PackageReference: S6; PackageDescription: 6-Pin Plastic TSOT-23, Body 2.9 x 1.63 mm, Pitch 0.95 mm; Supplier 1: Digi-Key; Supplier Part Number 1: LT1719CS6TR-ND; Features: Comparator, Separate In/Out Power Supply, Rail-to-Rail Out; RoHS: N; Supply Voltage Range: 2.7 to 10.5 V; Mounting Technology: Surface Mount; Code_JEDEC: MO-193; ComponentLink1Description: Manufacturer URL; ComponentLink1URL: http://www.linear.com/; ComponentLink2Description: Datasheet; ComponentLink2URL: http://cds.linear.com/docs/en/datasheet/1719fa.pdf; ComponentLink3Description: Package Specification; ComponentLink3URL: http://cds.linear.com/docs/en/packaging/SOT_6_05-08-1636.pdf
footprint LT-S6_N (SOT23, 6-Leads, Body 2.9x1.63mm, Pitch 0.95mm, IPC Medium Density)
footprint LT-S6_L (SOT23, 6-Leads, Body 2.9x1.63mm, Pitch 0.95mm, IPC High Density)
footprint LT-S6_M (SOT23, 6-Leads, Body 2.9x1.63mm, Pitch 0.95mm, IPC Low Density)
pins: 1 -IN (in) "Inverting Input of Comparator", 2 V- (power) "Negative Supply, Usually Grounded.", 3 +IN (in) "Noninverting Input of Comparator.", 4 V+ (power) "Positive Supply Voltage.", 5 OUT (out) "Output of Comparator.", 6 SHDN (in) "Shutdown. Pull to ground to enable comparator."

## LT1719CS6#TRM
designator U?
4.5 ns Single / Dual Supply 3 V / 5 V Comparator with Rail-to-Rail Output, 1 Channel, 2.7 to 10.5 V, 0 to +70 degC, 6-pin Plastic TSOT-23 (S6), Mini Tape and Reel; Generic Part Number: LT1719; Manufacturer: Linear Technology; PartNumber: LT1719CS6#TRM; Channels (#): 1; Prop Delay (us): 0.0042; Supply Current (uA) Typical: 4200; Vos (mV) Guaranteed: 2.5; Vos (mV) Typical: 0.4; Vs Max (V): 10.5; Vs Min (V): 2.7; DatasheetVersion: Rev A; PackageReference: S6; PackageDescription: 6-Pin Plastic TSOT-23, Body 2.9 x 1.63 mm, Pitch 0.95 mm; Supplier 1: Digi-Key; Supplier Part Number 1: LT1719CS6#TRMTR-ND; Supplier 2: Digi-Key; Supplier Part Number 2: LT1719CS6#TRMCT-ND; Features: Comparator, Separate In/Out Power Supply, Rail-to-Rail Out; RoHS: N; Supply Voltage Range: 2.7 to 10.5 V; Mounting Technology: Surface Mount; Code_JEDEC: MO-193; ComponentLink1Description: Manufacturer URL; ComponentLink1URL: http://www.linear.com/; ComponentLink2Description: Datasheet; ComponentLink2URL: http://cds.linear.com/docs/en/datasheet/1719fa.pdf; ComponentLink3Description: Package Specification; ComponentLink3URL: http://cds.linear.com/docs/en/packaging/SOT_6_05-08-1636.pdf
footprint LT-S6_N (SOT23, 6-Leads, Body 2.9x1.63mm, Pitch 0.95mm, IPC Medium Density)
footprint LT-S6_L (SOT23, 6-Leads, Body 2.9x1.63mm, Pitch 0.95mm, IPC High Density)
footprint LT-S6_M (SOT23, 6-Leads, Body 2.9x1.63mm, Pitch 0.95mm, IPC Low Density)
pins: 1 -IN (in) "Inverting Input of Comparator", 2 V- (power) "Negative Supply, Usually Grounded.", 3 +IN (in) "Noninverting Input of Comparator.", 4 V+ (power) "Positive Supply Voltage.", 5 OUT (out) "Output of Comparator.", 6 SHDN (in) "Shutdown. Pull to ground to enable comparator."

## LT1719CS6#TRMPBF
designator U?
4.5 ns Single / Dual Supply 3 V / 5 V Comparator with Rail-to-Rail Output, 1 Channel, 2.7 to 10.5 V, 0 to +70 degC, 6-pin Plastic TSOT-23 (S6), Mini Tape and Reel; Generic Part Number: LT1719; Manufacturer: Linear Technology; PartNumber: LT1719CS6#TRMPBF; Channels (#): 1; Prop Delay (us): 0.0042; Supply Current (uA) Typical: 4200; Vos (mV) Guaranteed: 2.5; Vos (mV) Typical: 0.4; Vs Max (V): 10.5; Vs Min (V): 2.7; DatasheetVersion: Rev A; PackageReference: S6; PackageDescription: 6-Pin Plastic TSOT-23, Body 2.9 x 1.63 mm, Pitch 0.95 mm; Supplier 1: Digi-Key; Supplier Part Number 1: LT1719CS6#TRMPBFTR-ND; Supplier 2: Digi-Key; Supplier Part Number 2: LT1719CS6#TRMPBFCT-ND; Supplier 3: Digi-Key; Supplier Part Number 3: LT1719CS6#TRMPBFDKR-ND; Supplier 4: Farnell; Supplier Part Number 4: 1663772; Supplier 5: Newark; Supplier Part Number 5: 57M5804; Features: Comparator, Separate In/Out Power Supply, Rail-to-Rail Out; RoHS: Y; Supply Voltage Range: 2.7 to 10.5 V; Mounting Technology: Surface Mount; Code_JEDEC: MO-193; ComponentLink1Description: Manufacturer URL; ComponentLink1URL: http://www.linear.com/; ComponentLink2Description: Datasheet; ComponentLink2URL: http://cds.linear.com/docs/en/datasheet/1719fa.pdf; ComponentLink3Description: Package Specification; ComponentLink3URL: http://cds.linear.com/docs/en/packaging/SOT_6_05-08-1636.pdf
footprint LT-S6_N (SOT23, 6-Leads, Body 2.9x1.63mm, Pitch 0.95mm, IPC Medium Density)
footprint LT-S6_L (SOT23, 6-Leads, Body 2.9x1.63mm, Pitch 0.95mm, IPC High Density)
footprint LT-S6_M (SOT23, 6-Leads, Body 2.9x1.63mm, Pitch 0.95mm, IPC Low Density)
pins: 1 -IN (in) "Inverting Input of Comparator", 2 V- (power) "Negative Supply, Usually Grounded.", 3 +IN (in) "Noninverting Input of Comparator.", 4 V+ (power) "Positive Supply Voltage.", 5 OUT (out) "Output of Comparator.", 6 SHDN (in) "Shutdown. Pull to ground to enable comparator."

## LT1719CS6#TRPBF
designator U?
4.5 ns, Single / Dual Supply 3 V / 5 V Comparator with Rail-to-Rail Output, 1 Channel, 2.7 to 10.5 V, 0 to +70 degC, 6-pin Plastic TSOT-23 (S6), Tape and Reel; Generic Part Number: LT1719; Manufacturer: Linear Technology; PartNumber: LT1719CS6#TRPBF; Channels (#): 1; Prop Delay (us): 0.0042; Supply Current (uA) Typical: 4200; Vos (mV) Guaranteed: 2.5; Vos (mV) Typical: 0.4; Vs Max (V): 10.5; Vs Min (V): 2.7; DatasheetVersion: Rev A; PackageReference: S6; PackageDescription: 6-Pin Plastic TSOT-23, Body 2.9 x 1.63 mm, Pitch 0.95 mm; Supplier 1: Digi-Key; Supplier Part Number 1: LT1719CS6#TRPBF-ND; Supplier 2: Newark; Supplier Part Number 2: 57M5805; Features: Comparator, Separate In/Out Power Supply, Rail-to-Rail Out; RoHS: Y; Supply Voltage Range: 2.7 to 10.5 V; Mounting Technology: Surface Mount; Code_JEDEC: MO-193; ComponentLink1Description: Manufacturer URL; ComponentLink1URL: http://www.linear.com/; ComponentLink2Description: Datasheet; ComponentLink2URL: http://cds.linear.com/docs/en/datasheet/1719fa.pdf; ComponentLink3Description: Package Specification; ComponentLink3URL: http://cds.linear.com/docs/en/packaging/SOT_6_05-08-1636.pdf
footprint LT-S6_N (SOT23, 6-Leads, Body 2.9x1.63mm, Pitch 0.95mm, IPC Medium Density)
footprint LT-S6_L (SOT23, 6-Leads, Body 2.9x1.63mm, Pitch 0.95mm, IPC High Density)
footprint LT-S6_M (SOT23, 6-Leads, Body 2.9x1.63mm, Pitch 0.95mm, IPC Low Density)
pins: 1 -IN (in) "Inverting Input of Comparator", 2 V- (power) "Negative Supply, Usually Grounded.", 3 +IN (in) "Noninverting Input of Comparator.", 4 V+ (power) "Positive Supply Voltage.", 5 OUT (out) "Output of Comparator.", 6 SHDN (in) "Shutdown. Pull to ground to enable comparator."

## LT1719CS8
designator U?
4.5 ns, Single / Dual Supply 3 V / 5 V Comparator with Rail-to-Rail Output, 1 Channel, 2.7 to 10.5 V, 0 to +70 degC, 8-pin SOP (S8); Generic Part Number: LT1719; Manufacturer: Linear Technology; PartNumber: LT1719CS8; Channels (#): 1; Prop Delay (us): 0.0042; Supply Current (uA) Typical: 4200; Vos (mV) Guaranteed: 2.5; Vos (mV) Typical: 0.4; Vs Max (V): 10.5; Vs Min (V): 2.7; DatasheetVersion: Rev A; PackageReference: S8; PackageDescription: 8-Pin Plastic Small Outline (Narrow .150 Inch), Body 4.9 x 3.9 mm, Pitch 1.27 mm; Supplier 1: Digi-Key; Supplier Part Number 1: LT1719CS8-ND; Supplier 2: Newark; Supplier Part Number 2: 57M5806; Features: Comparator, Separate In/Out Power Supply, Rail-to-Rail Out; RoHS: N; Supply Voltage Range: 2.7 to 10.5 V; Mounting Technology: Surface Mount; ComponentLink1Description: Manufacturer URL; ComponentLink1URL: http://www.linear.com/; ComponentLink2Description: Datasheet; ComponentLink2URL: http://cds.linear.com/docs/en/datasheet/1719fa.pdf; ComponentLink3Description: Package Specification; ComponentLink3URL: http://cds.linear.com/docs/en/packaging/05081610_G_SO8.pdf
footprint LT-S8_N (SOP, 8-Leads, Body 4.9x3.9mm, Pitch 1.27mm, IPC Medium Density)
footprint LT-S8_L (SOP, 8-Leads, Body 4.9x3.9mm, Pitch 1.27mm, IPC High Density)
footprint LT-S8_M (SOP, 8-Leads, Body 4.9x3.9mm, Pitch 1.27mm, IPC Low Density)
pins: 1 VCC (power) "Positive Supply Voltage for Input Stage.", 2 +IN (in) "Noninverting Input of Comparator.", 3 -IN (in) "Inverting Input of Comparator.", 4 VEE (power) "Negative Supply Voltage for Input Stage and Chip Substrate.", 5 GND (power) "Ground.", 6 SHDN (in) "Shutdown. Pull to ground to enable comparator.", 7 OUT (out) "Output of Comparator.", 8 +VS (power) "Positive Supply Voltage for Output Stage."

## LT1719CS8#PBF
designator U?
4.5 ns, Single / Dual Supply 3 V / 5 V Comparator with Rail-to-Rail Output, 1 Channel, 2.7 to 10.5 V, 0 to +70 degC, 8-pin SOP (S8); Generic Part Number: LT1719; Manufacturer: Linear Technology; PartNumber: LT1719CS8#PBF; Channels (#): 1; Prop Delay (us): 0.0042; Supply Current (uA) Typical: 4200; Vos (mV) Guaranteed: 2.5; Vos (mV) Typical: 0.4; Vs Max (V): 10.5; Vs Min (V): 2.7; DatasheetVersion: Rev A; PackageReference: S8; PackageDescription: 8-Pin Plastic Small Outline (Narrow .150 Inch), Body 4.9 x 3.9 mm, Pitch 1.27 mm; Supplier 1: Digi-Key; Supplier Part Number 1: LT1719CS8#PBF-ND; Supplier 2: Farnell; Supplier Part Number 2: 1663473; Supplier 3: Newark; Supplier Part Number 3: 57M5807; Features: Comparator, Separate In/Out Power Supply, Rail-to-Rail Out; RoHS: Y; Supply Voltage Range: 2.7 to 10.5 V; Mounting Technology: Surface Mount; ComponentLink1Description: Manufacturer URL; ComponentLink1URL: http://www.linear.com/; ComponentLink2Description: Datasheet; ComponentLink2URL: http://cds.linear.com/docs/en/datasheet/1719fa.pdf; ComponentLink3Description: Package Specification; ComponentLink3URL: http://cds.linear.com/docs/en/packaging/05081610_G_SO8.pdf
footprint LT-S8_N (SOP, 8-Leads, Body 4.9x3.9mm, Pitch 1.27mm, IPC Medium Density)
footprint LT-S8_L (SOP, 8-Leads, Body 4.9x3.9mm, Pitch 1.27mm, IPC High Density)
footprint LT-S8_M (SOP, 8-Leads, Body 4.9x3.9mm, Pitch 1.27mm, IPC Low Density)
pins: 1 VCC (power) "Positive Supply Voltage for Input Stage.", 2 +IN (in) "Noninverting Input of Comparator.", 3 -IN (in) "Inverting Input of Comparator.", 4 VEE (power) "Negative Supply Voltage for Input Stage and Chip Substrate.", 5 GND (power) "Ground.", 6 SHDN (in) "Shutdown. Pull to ground to enable comparator.", 7 OUT (out) "Output of Comparator.", 8 +VS (power) "Positive Supply Voltage for Output Stage."

## LT1719CS8#TR
designator U?
4.5 ns Single / Dual Supply 3 V / 5 V Comparator with Rail-to-Rail Output, 1 Channel, 2.7 to 10.5 V, 0 to +70 degC, 8-pin SOP (S8), Tape and Reel; Generic Part Number: LT1719; Manufacturer: Linear Technology; PartNumber: LT1719CS8#TR; Channels (#): 1; Prop Delay (us): 0.0042; Supply Current (uA) Typical: 4200; Vos (mV) Guaranteed: 2.5; Vos (mV) Typical: 0.4; Vs Max (V): 10.5; Vs Min (V): 2.7; DatasheetVersion: Rev A; PackageReference: S8; PackageDescription: 8-Pin Plastic Small Outline (Narrow .150 Inch), Body 4.9 x 3.9 mm, Pitch 1.27 mm; Supplier 1: Digi-Key; Supplier Part Number 1: LT1719CS8#TR-ND; Features: Comparator, Separate In/Out Power Supply, Rail-to-Rail Out; RoHS: N; Supply Voltage Range: 2.7 to 10.5 V; Mounting Technology: Surface Mount; ComponentLink1Description: Manufacturer URL; ComponentLink1URL: http://www.linear.com/; ComponentLink2Description: Datasheet; ComponentLink2URL: http://cds.linear.com/docs/en/datasheet/1719fa.pdf; ComponentLink3Description: Package Specification; ComponentLink3URL: http://cds.linear.com/docs/en/packaging/05081610_G_SO8.pdf
footprint LT-S8_N (SOP, 8-Leads, Body 4.9x3.9mm, Pitch 1.27mm, IPC Medium Density)
footprint LT-S8_L (SOP, 8-Leads, Body 4.9x3.9mm, Pitch 1.27mm, IPC High Density)
footprint LT-S8_M (SOP, 8-Leads, Body 4.9x3.9mm, Pitch 1.27mm, IPC Low Density)
pins: 1 VCC (power) "Positive Supply Voltage for Input Stage.", 2 +IN (in) "Noninverting Input of Comparator.", 3 -IN (in) "Inverting Input of Comparator.", 4 VEE (power) "Negative Supply Voltage for Input Stage and Chip Substrate.", 5 GND (power) "Ground.", 6 SHDN (in) "Shutdown. Pull to ground to enable comparator.", 7 OUT (out) "Output of Comparator.", 8 +VS (power) "Positive Supply Voltage for Output Stage."

## LT1719CS8#TRPBF
designator U?
4.5 ns, Single / Dual Supply 3 V / 5 V Comparator with Rail-to-Rail Output, 1 Channel, 2.7 to 10.5 V, 0 to +70 degC, 8-pin SOP (S8), Tape and Reel; Generic Part Number: LT1719; Manufacturer: Linear Technology; PartNumber: LT1719CS8#TRPBF; Channels (#): 1; Prop Delay (us): 0.0042; Supply Current (uA) Typical: 4200; Vos (mV) Guaranteed: 2.5; Vos (mV) Typical: 0.4; Vs Max (V): 10.5; Vs Min (V): 2.7; DatasheetVersion: Rev A; PackageReference: S8; PackageDescription: 8-Pin Plastic Small Outline (Narrow .150 Inch), Body 4.9 x 3.9 mm, Pitch 1.27 mm; Supplier 1: Digi-Key; Supplier Part Number 1: LT1719CS8#TRPBF-ND; Supplier 2: Newark; Supplier Part Number 2: 57M5809; Features: Comparator, Separate In/Out Power Supply, Rail-to-Rail Out; RoHS: Y; Supply Voltage Range: 2.7 to 10.5 V; Mounting Technology: Surface Mount; ComponentLink1Description: Manufacturer URL; ComponentLink1URL: http://www.linear.com/; ComponentLink2Description: Datasheet; ComponentLink2URL: http://cds.linear.com/docs/en/datasheet/1719fa.pdf; ComponentLink3Description: Package Specification; ComponentLink3URL: http://cds.linear.com/docs/en/packaging/05081610_G_SO8.pdf
footprint LT-S8_N (SOP, 8-Leads, Body 4.9x3.9mm, Pitch 1.27mm, IPC Medium Density)
footprint LT-S8_L (SOP, 8-Leads, Body 4.9x3.9mm, Pitch 1.27mm, IPC High Density)
footprint LT-S8_M (SOP, 8-Leads, Body 4.9x3.9mm, Pitch 1.27mm, IPC Low Density)
pins: 1 VCC (power) "Positive Supply Voltage for Input Stage.", 2 +IN (in) "Noninverting Input of Comparator.", 3 -IN (in) "Inverting Input of Comparator.", 4 VEE (power) "Negative Supply Voltage for Input Stage and Chip Substrate.", 5 GND (power) "Ground.", 6 SHDN (in) "Shutdown. Pull to ground to enable comparator.", 7 OUT (out) "Output of Comparator.", 8 +VS (power) "Positive Supply Voltage for Output Stage."

## LT1719IS6
designator U?
4.5 ns Single / Dual Supply 3V / 5V Comparator with Rail-to-Rail Output, 1 Channel, 2.7 to 10.5 V, -40 to +85 degC, 6-pin Plastic TSOT-23 (S6); Generic Part Number: LT1719; Manufacturer: Linear Technology; PartNumber: LT1719IS6; Channels (#): 1; Prop Delay (us): 0.0042; Supply Current (uA) Typical: 4200; Vos (mV) Guaranteed: 2.5; Vos (mV) Typical: 0.4; Vs Max (V): 10.5; Vs Min (V): 2.7; DatasheetVersion: Rev A; PackageReference: S6; PackageDescription: 6-Pin Plastic TSOT-23, Body 2.9 x 1.63 mm, Pitch 0.95 mm; Features: Comparator, Separate In/Out Power Supply, Rail-to-Rail Out; RoHS: N; Supply Voltage Range: 2.7 to 10.5 V; Mounting Technology: Surface Mount; Code_JEDEC: MO-193; ComponentLink1Description: Manufacturer URL; ComponentLink1URL: http://www.linear.com/; ComponentLink2Description: Datasheet; ComponentLink2URL: http://cds.linear.com/docs/en/datasheet/1719fa.pdf; ComponentLink3Description: Package Specification; ComponentLink3URL: http://cds.linear.com/docs/en/packaging/SOT_6_05-08-1636.pdf
footprint LT-S6_N (SOT23, 6-Leads, Body 2.9x1.63mm, Pitch 0.95mm, IPC Medium Density)
footprint LT-S6_L (SOT23, 6-Leads, Body 2.9x1.63mm, Pitch 0.95mm, IPC High Density)
footprint LT-S6_M (SOT23, 6-Leads, Body 2.9x1.63mm, Pitch 0.95mm, IPC Low Density)
pins: 1 -IN (in) "Inverting Input of Comparator", 2 V- (power) "Negative Supply, Usually Grounded.", 3 +IN (in) "Noninverting Input of Comparator.", 4 V+ (power) "Positive Supply Voltage.", 5 OUT (out) "Output of Comparator.", 6 SHDN (in) "Shutdown. Pull to ground to enable comparator."